# Altium integrated library DRV8873HPWPRQ1.IntLib: 1 symbol
Pins are listed as number, name and electrical type; pins without a type are passive.

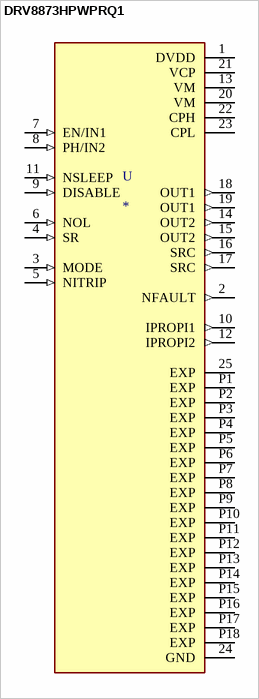
[diagram p0: symbol DRV8873HPWPRQ1]

## DRV8873HPWPRQ1
designator U
Unipolar Motor Driver NMOS Hardware 24-HTSSOP; MP: DRV8873HPWPRQ1; MF: Texas Instruments; Value: *; Package: VFQFN-48 Texas Instruments; SnapEDA_Link: https://www.snapeda.com/parts/DRV8873HPWPRQ1/Texas%20Instruments/view-part/3100435/?ref=snap; Price: None; Availability: Unavailable
footprint SOP65P640X120-25N
pins: 1 DVDD (power), 2 NFAULT (out), 3 MODE (in), 4 SR (in), 5 NITRIP (in), 6 NOL (in), 7 EN/IN1 (in), 8 PH/IN2 (in), 9 DISABLE (in), 10 IPROPI1 (out), 11 NSLEEP (in), 12 IPROPI2 (out), 13 VM (power), 14 OUT2 (out), 15 OUT2 (out), 16 SRC (out), 17 SRC (out), 18 OUT1 (out), 19 OUT1 (out), 20 VM (power), 21 VCP (power), 22 CPH (power), 23 CPL (power), 24 GND (power), 25 EXP, P1 EXP, P2 EXP, P3 EXP, P4 EXP, P5 EXP, P6 EXP, P7 EXP, P8 EXP, P9 EXP, P10 EXP, P11 EXP, P12 EXP, P13 EXP, P14 EXP, P15 EXP, P16 EXP, P17 EXP, P18 EXP